# Altium schematic symbol library Socket 7.SchLib: 1 symbol
Pins are listed as number, name and electrical type; pins without a type are passive.

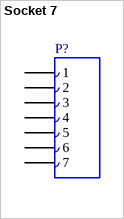
[diagram p0: symbol Socket 7]

## Socket 7
designator P?
Socket (Female header), 7-Pin
pins: 1, 2, 3, 4, 5, 6, 7